# EAGLE library part SI4532ADY (library fruit-parts)
N and P MOSFETS
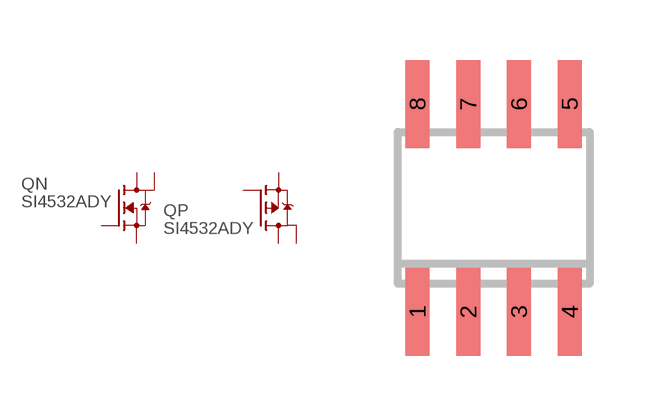
[diagram p2: symbol with the pads of SO8; footprint SO8]

Designator prefix Q; gates N=N-MOSFETDD P=P-MOSFETDD

## SI4532ADY  [SO8]
1  N:S
2  N:G  in
3  P:S
4  P:G  in
5  P:D
6  P:D
7  N:D
8  N:D

## Footprint SO8 (pad centres in mm)
SMALL OUTLINE INTEGRATED CIRCUIT
smd 0.6 x 2.2: 1 -1.905,-2.6; 2 -0.635,-2.6; 3 0.635,-2.6; 4 1.905,-2.6; 5 1.905,2.6; 6 0.635,2.6; 7 -0.635,2.6; 8 -1.905,2.6